# Altium footprint library ELSMTD6.3h5.4.PcbLib: 1 footprints
Each footprint in its own frame and in the unit in brackets; x right, y up, seen from the top. Pads: shape width x height; smd on the part's side, far side on the other; paste and mask are expansions set on the pad; w line width, h text height; cw(c..) or ccw(c..) is an arc to the next point about the centre after c.
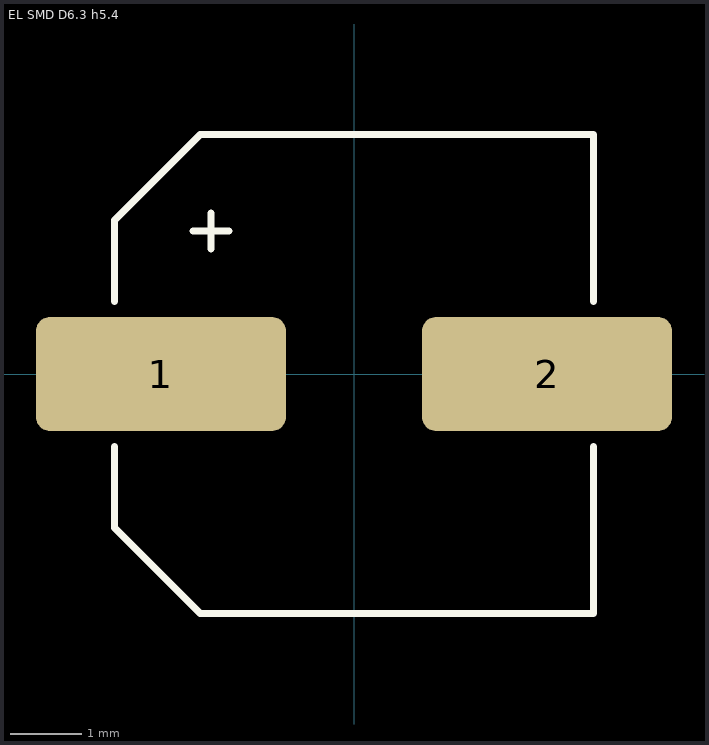
[diagram p0: the footprint, top view; thin cyan lines are the x and y axes]

## EL SMD D6.3 h5.4 [mm]
height 5.4
pads (2):
  rrect25% 3.5x1.6 smd mask+0.102: 1(-2.7,0) 2(2.7,0)
Top Overlay:
  lines w0.1: -3.35,-1.016 -3.35,-2.15 -2.15,-3.35 3.35,-3.35 3.35,-1.016 ; -3.35,1.016 -3.35,2.15 -2.15,3.35 3.35,3.35 3.35,1.016 ; -2.25,2 -1.75,2 ; -2,1.75 -2,2.25
3D body "Cap EL SMD D6.3 h5.4.STEP": height 5.8, standoff 0, extent -3.6,-3.3 3.6,3.3